# Altium footprint library Terminal_Blocks_Barrier_9.5mm.PcbLib: 9 footprints
Each footprint in its own frame and in the unit in brackets; x right, y up, seen from the top. Pads: shape width x height; smd on the part's side, far side on the other; paste and mask are expansions set on the pad; w line width, h text height; cw(c..) or ccw(c..) is an arc to the next point about the centre after c.
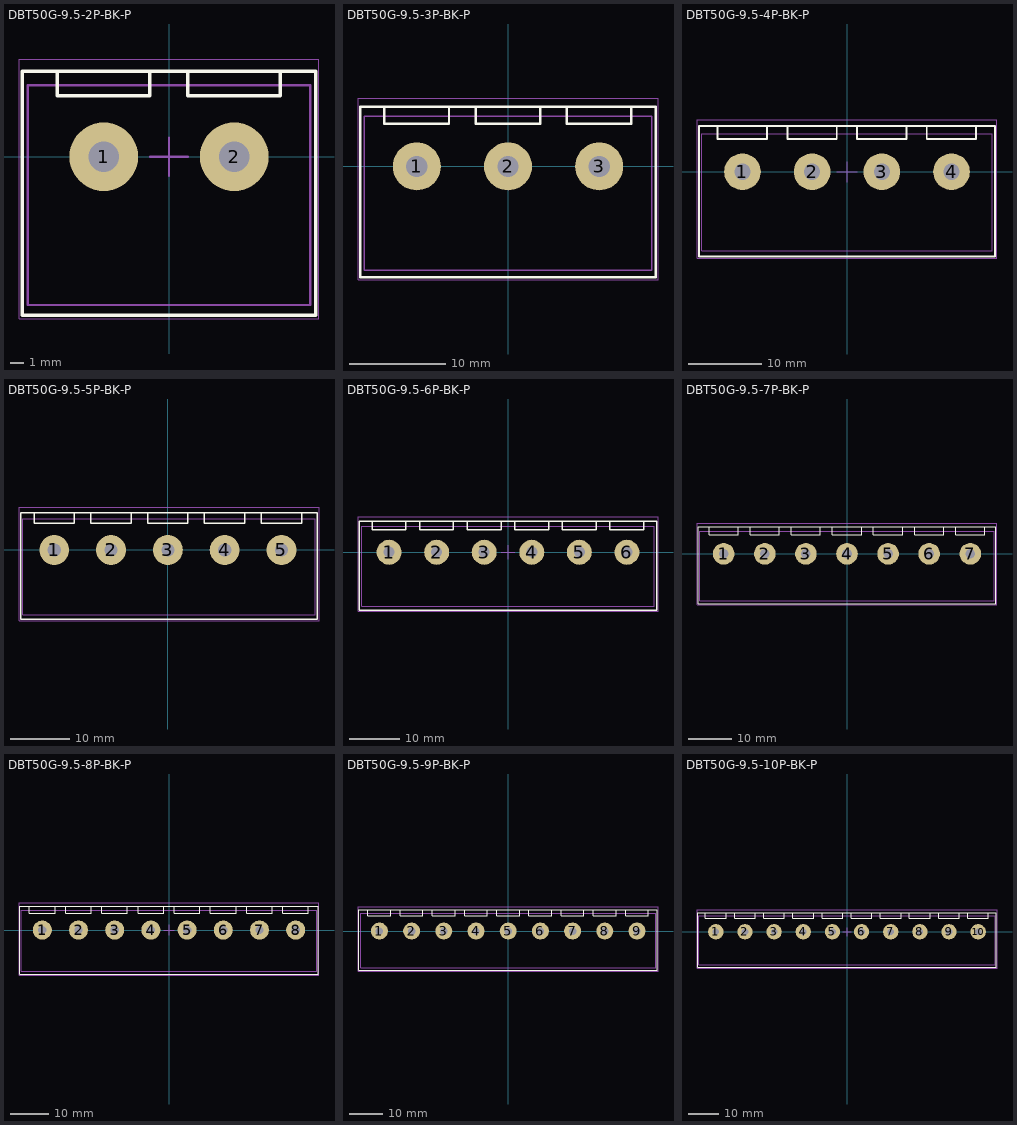
[diagram p0: the footprints below, top view; thin cyan lines are the x and y axes]

## DBT50G-9.5-2P-BK-P [mm]
pads (2):
  round 5 hole 2.2: 1(-4.75,0) 2(4.75,0)
Top Overlay:
  lines w0.254: -8.128,6.223 -8.128,4.445 -5.385,4.445 -1.397,4.445 -1.397,6.223 ; 1.372,6.223 1.372,4.445 4.115,4.445 8.103,4.445 8.103,6.223 ; -10.668,-11.557 10.668,-11.557 10.668,6.223 -10.668,6.223 -10.668,-11.557
Mechanical 1:
  lines w0.152: -10.287,-10.795 -10.287,5.207 10.287,5.207 10.287,-10.795 -10.287,-10.795
Top Designator:
  text ".Designator" at -7.498,-0.5 h1.5
Top Courtyard:
  lines w0.05: -10.922,-11.811 10.922,-11.811 10.922,7.112 -10.922,7.112 -10.922,-11.811
  lines w0.152: -1.397,0 1.397,0 ; 0,-1.397 0,1.397
3D body "HB9500_01x02_P9.50mm.step": height 18.2, standoff -7.8, extent -10.25,-10.793 10.25,5.207

## DBT50G-9.5-3P-BK-P [mm]
pads (3):
  round 5 hole 2.2: 1(-9.5,0) 2(0,0) 3(9.5,0)
Top Overlay:
  lines w0.254: -12.878,6.223 -12.878,4.445 -10.135,4.445 -6.147,4.445 -6.147,6.223 ; -3.378,6.223 -3.378,4.445 -0.635,4.445 3.353,4.445 3.353,6.223 ; 6.122,6.223 6.122,4.445 8.865,4.445 12.853,4.445 12.853,6.223 ; -15.367,-11.557 15.367,-11.557 15.367,6.223 -15.367,6.223 -15.367,-11.557
Mechanical 1:
  lines w0.152: -14.986,-10.795 -14.986,5.207 14.986,5.207 14.986,-10.795 -14.986,-10.795
Top Designator:
  text ".Designator" at -7.498,-0.5 h1.5
Top Courtyard:
  lines w0.05: -15.621,-11.811 15.621,-11.811 15.621,7.112 -15.621,7.112 -15.621,-11.811
  lines w0.152: -1.397,0 1.397,0 ; 0,-1.397 0,1.397
3D body "HB9500_01x03_P9.50mm.step": height 18.2, standoff -7.8, extent -15,-10.793 15,5.207

## DBT50G-9.5-4P-BK-P [mm]
pads (4):
  round 5 hole 2.2: 1(-14.25,0) 2(-4.75,0) 3(4.75,0) 4(14.25,0)
Top Overlay:
  lines w0.254: -17.628,6.223 -17.628,4.445 -14.885,4.445 -10.897,4.445 -10.897,6.223 ; -8.128,6.223 -8.128,4.445 -5.385,4.445 -1.397,4.445 -1.397,6.223 ; 1.372,6.223 1.372,4.445 4.115,4.445 8.103,4.445 8.103,6.223 ; 10.872,6.223 10.872,4.445 13.615,4.445 17.603,4.445 17.603,6.223 ; -20.193,-11.557 -20.193,6.223 20.193,6.223 20.193,-11.557 -20.193,-11.557
Mechanical 1:
  lines w0.152: -19.812,-10.795 19.812,-10.795 19.812,5.207 -19.812,5.207 -19.812,-10.795
Top Designator:
  text ".Designator" at -7.498,-0.5 h1.5
Top Courtyard:
  lines w0.05: -20.447,-11.811 -20.447,7.112 20.447,7.112 20.447,-11.811 -20.447,-11.811
  lines w0.152: -1.397,0 1.397,0 ; 0,-1.397 0,1.397
3D body "HB9500_01x04_P9.50mm.step": height 18.2, standoff -7.8, extent -19.75,-10.92 19.75,5.08

## DBT50G-9.5-5P-BK-P [mm]
pads (5):
  round 5 hole 2.2: 1(-19,0) 2(-9.5,0) 3(0,0) 4(9.5,0) 5(19,0)
Top Overlay:
  lines w0.254: -22.378,6.223 -22.378,4.445 -19.635,4.445 -15.647,4.445 -15.647,6.223 ; -12.878,6.223 -12.878,4.445 -10.135,4.445 -6.147,4.445 -6.147,6.223 ; -3.378,6.223 -3.378,4.445 -0.635,4.445 3.353,4.445 3.353,6.223 ; 6.122,6.223 6.122,4.445 8.865,4.445 12.853,4.445 12.853,6.223 ; 15.622,6.223 15.622,4.445 18.365,4.445 22.353,4.445 22.353,6.223 ; -24.638,-11.557 -24.638,6.223 25.019,6.223 25.019,-11.557 -24.638,-11.557
Mechanical 1:
  lines w0.152: -24.257,-10.795 24.638,-10.795 24.638,5.207 -24.257,5.207 -24.257,-10.795
Top Designator:
  text ".Designator" at -7.498,-0.5 h1.5
Top Courtyard:
  lines w0.05: -24.892,-11.811 -24.892,7.112 25.273,7.112 25.273,-11.811 -24.892,-11.811
  lines w0.152: -1.397,0 1.397,0 ; 0,-1.397 0,1.397
3D body "HB9500_01x05_P9.50mm.step": height 18.2, standoff -7.8, extent -24.296,-10.824 24.704,5.176

## DBT50G-9.5-6P-BK-P [mm]
pads (6):
  round 5 hole 2.2: 1(-23.75,0) 2(-14.25,0) 3(-4.75,0) 4(4.75,0) 5(14.25,0) 6(23.75,0)
Top Overlay:
  lines w0.254: -27.128,6.223 -27.128,4.445 -24.385,4.445 -20.397,4.445 -20.397,6.223 ; -17.628,6.223 -17.628,4.445 -14.885,4.445 -10.897,4.445 -10.897,6.223 ; -8.128,6.223 -8.128,4.445 -5.385,4.445 -1.397,4.445 -1.397,6.223 ; 1.372,6.223 1.372,4.445 4.115,4.445 8.103,4.445 8.103,6.223 ; 10.872,6.223 10.872,4.445 13.615,4.445 17.603,4.445 17.603,6.223 ; 20.372,6.223 20.372,4.445 23.115,4.445 27.103,4.445 27.103,6.223 ; -29.718,-11.557 29.718,-11.557 29.718,6.223 -29.718,6.223 -29.718,-11.557
Mechanical 1:
  lines w0.152: -29.21,-10.795 -29.21,5.207 29.21,5.207 29.21,-10.795 -29.21,-10.795
Top Designator:
  text ".Designator" at -7.498,-0.5 h1.5
Top Courtyard:
  lines w0.05: -29.972,-11.811 29.972,-11.811 29.972,7.112 -29.972,7.112 -29.972,-11.811
  lines w0.152: -1.397,0 1.397,0 ; 0,-1.397 0,1.397
3D body "HB9500_01x06_P9.50mm.step": height 18.2, standoff -7.8, extent -29.25,-10.793 29.25,5.207

## DBT50G-9.5-7P-BK-P [mm]
pads (7):
  round 5 hole 2.2: 1(-28.5,0) 2(-19,0) 3(-9.5,0) 4(0,0) 5(9.5,0) 6(19,0) 7(28.5,0)
Top Overlay:
  lines w0.254: -31.878,6.223 -31.878,4.445 -29.135,4.445 -25.147,4.445 -25.147,6.223 ; -22.378,6.223 -22.378,4.445 -19.635,4.445 -15.647,4.445 -15.647,6.223 ; -12.878,6.223 -12.878,4.445 -10.135,4.445 -6.147,4.445 -6.147,6.223 ; -3.378,6.223 -3.378,4.445 -0.635,4.445 3.353,4.445 3.353,6.223 ; 6.122,6.223 6.122,4.445 8.865,4.445 12.853,4.445 12.853,6.223 ; 15.622,6.223 15.622,4.445 18.365,4.445 22.353,4.445 22.353,6.223 ; 25.122,6.223 25.122,4.445 27.865,4.445 31.853,4.445 31.853,6.223 ; -34.417,-11.557 34.417,-11.557 34.417,6.223 -34.417,6.223 -34.417,-11.557
Mechanical 1:
  lines w0.152: -34.036,-10.795 -34.036,5.207 34.036,5.207 34.036,-10.795 -34.036,-10.795
Top Designator:
  text ".Designator" at -7.498,-0.5 h1.5
Top Courtyard:
  lines w0.05: -34.671,-11.811 34.671,-11.811 34.671,7.112 -34.671,7.112 -34.671,-11.811
  lines w0.152: -1.397,0 1.397,0 ; 0,-1.397 0,1.397
3D body "HB9500_01x07_P9.50mm.step": height 18.2, standoff -7.8, extent -34,-10.793 34,5.207

## DBT50G-9.5-8P-BK-P [mm]
pads (8):
  round 5 hole 2.2: 1(-33.25,0) 2(-23.75,0) 3(-14.25,0) 4(-4.75,0) 5(4.75,0) 6(14.25,0) 7(23.75,0) 8(33.25,0)
Top Overlay:
  lines w0.254: -36.628,6.223 -36.628,4.445 -33.885,4.445 -29.897,4.445 -29.897,6.223 ; -27.128,6.223 -27.128,4.445 -24.385,4.445 -20.397,4.445 -20.397,6.223 ; -17.628,6.223 -17.628,4.445 -14.885,4.445 -10.897,4.445 -10.897,6.223 ; -8.128,6.223 -8.128,4.445 -5.385,4.445 -1.397,4.445 -1.397,6.223 ; 1.372,6.223 1.372,4.445 4.115,4.445 8.103,4.445 8.103,6.223 ; 10.872,6.223 10.872,4.445 13.615,4.445 17.603,4.445 17.603,6.223 ; 20.372,6.223 20.372,4.445 23.115,4.445 27.103,4.445 27.103,6.223 ; 29.872,6.223 29.872,4.445 32.615,4.445 36.603,4.445 36.603,6.223 ; -39.116,-11.557 -39.116,6.223 39.116,6.223 39.116,-11.557 -39.116,-11.557
Mechanical 1:
  lines w0.152: -38.735,-10.795 38.735,-10.795 38.735,5.207 -38.735,5.207 -38.735,-10.795
Top Designator:
  text ".Designator" at -7.498,-0.5 h1.5
Top Courtyard:
  lines w0.05: -39.37,-11.811 -39.37,7.112 39.37,7.112 39.37,-11.811 -39.37,-11.811
  lines w0.152: -1.397,0 1.397,0 ; 0,-1.397 0,1.397
3D body "HB9500_01x08_P9.50mm.step": height 18.2, standoff -7.8, extent -38.75,-10.793 38.75,5.207

## DBT50G-9.5-9P-BK-P [mm]
pads (9):
  round 5 hole 2.2: 1(-38,0) 2(-28.5,0) 3(-19,0) 4(-9.5,0) 5(0,0) 6(9.5,0) 7(19,0) 8(28.5,0) 9(38,0)
Top Overlay:
  lines w0.254: -41.378,6.223 -41.378,4.445 -38.635,4.445 -34.647,4.445 -34.647,6.223 ; -31.878,6.223 -31.878,4.445 -29.135,4.445 -25.147,4.445 -25.147,6.223 ; -22.378,6.223 -22.378,4.445 -19.635,4.445 -15.647,4.445 -15.647,6.223 ; -12.878,6.223 -12.878,4.445 -10.135,4.445 -6.147,4.445 -6.147,6.223 ; -3.378,6.223 -3.378,4.445 -0.635,4.445 3.353,4.445 3.353,6.223 ; 6.122,6.223 6.122,4.445 8.865,4.445 12.853,4.445 12.853,6.223 ; 15.622,6.223 15.622,4.445 18.365,4.445 22.353,4.445 22.353,6.223 ; 25.122,6.223 25.122,4.445 27.865,4.445 31.853,4.445 31.853,6.223 ; 34.622,6.223 34.622,4.445 37.365,4.445 41.353,4.445 41.353,6.223 ; -44.069,-11.557 -44.069,6.223 43.942,6.223 43.942,-11.557 -44.069,-11.557
Mechanical 1:
  lines w0.152: -43.561,-10.795 43.561,-10.795 43.561,5.207 -43.561,5.207 -43.561,-10.795
Top Designator:
  text ".Designator" at -7.498,-0.5 h1.5
Top Courtyard:
  lines w0.05: -44.323,-11.811 -44.323,7.112 44.196,7.112 44.196,-11.811 -44.323,-11.811
  lines w0.152: -1.397,0 1.397,0 ; 0,-1.397 0,1.397
3D body "HB9500_01x09_P9.50mm.step": height 18.2, standoff -7.8, extent -43.5,-10.793 43.5,5.207

## DBT50G-9.5-10P-BK-P [mm]
pads (10):
  round 5 hole 2.2: 1(-42.75,0) 2(-33.25,0) 3(-23.75,0) 4(-14.25,0) 5(-4.75,0) 6(4.75,0) 7(14.25,0) 8(23.75,0) 9(33.25,0) 10(42.75,0)
Top Overlay:
  lines w0.254: -46.128,6.223 -46.128,4.445 -43.385,4.445 -39.397,4.445 -39.397,6.223 ; -36.628,6.223 -36.628,4.445 -33.885,4.445 -29.897,4.445 -29.897,6.223 ; -27.128,6.223 -27.128,4.445 -24.385,4.445 -20.397,4.445 -20.397,6.223 ; -17.628,6.223 -17.628,4.445 -14.885,4.445 -10.897,4.445 -10.897,6.223 ; -8.128,6.223 -8.128,4.445 -5.385,4.445 -1.397,4.445 -1.397,6.223 ; 1.372,6.223 1.372,4.445 4.115,4.445 8.103,4.445 8.103,6.223 ; 10.872,6.223 10.872,4.445 13.615,4.445 17.603,4.445 17.603,6.223 ; 20.372,6.223 20.372,4.445 23.115,4.445 27.103,4.445 27.103,6.223 ; 29.872,6.223 29.872,4.445 32.615,4.445 36.603,4.445 36.603,6.223 ; 39.372,6.223 39.372,4.445 42.115,4.445 46.103,4.445 46.103,6.223 ; -48.641,-11.557 48.641,-11.557 48.641,6.223 -48.641,6.223 -48.641,-11.557
Mechanical 1:
  lines w0.152: -48.26,-10.795 -48.26,5.207 48.26,5.207 48.26,-10.795 -48.26,-10.795
Top Designator:
  text ".Designator" at -7.498,-0.5 h1.5
Top Courtyard:
  lines w0.05: -48.895,-11.811 48.895,-11.811 48.895,7.112 -48.895,7.112 -48.895,-11.811
  lines w0.152: -1.397,0 1.397,0 ; 0,-1.397 0,1.397
3D body "HB9500_01x10_P9.50mm.step": height 18.2, standoff -7.8, extent -48.25,-10.793 48.25,5.207